# Altium schematic symbol library IC_Transceivers.SchLib: 2 symbols
Pins are listed as number, name and electrical type; pins without a type are passive.

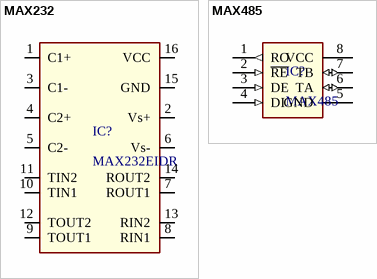
[diagram p0: symbols MAX232 to MAX485]

## MAX232
designator IC?, comment MAX232EIDR
2/2 Transceiver Full RS232 16-SOIC; Manufacturer: *; Unit price: *; Value: MAX232EIDR; Part number: *
footprint SOIC16-N (SOIC16, 16-SOIC (0.154", 3.90mm Width))
footprint SOIC16-N-S (SOIC16, 16-SOIC (0.154", 3.90mm Width) - S-PAD)
pins: 1 C1+, 2 Vs+, 3 C1-, 4 C2+, 5 C2-, 6 Vs-, 7 ROUT1, 8 RIN1, 9 TOUT1, 10 TIN1, 11 TIN2, 12 TOUT2, 13 RIN2, 14 ROUT2, 15 GND, 16 VCC

## MAX485
designator IC?
IC TRANSCEIVER HALF 1/1 8SOIC; Manufacturer: *; Part number: *; Unit price: *; Description: *; Value: MAX485
footprint SOIC8-N (SOIC8 - SO08 - SMALL OUTLINE INTEGRATED CIRCUIT)
pins: 1 RO (out), 2 ~{RE} (in), 3 DE (in), 4 DI (in), 5 GND (power), 6 TA (io), 7 TB (io), 8 VCC (power)